# Altium footprint library USB4215-03-A.PcbLib: 1 footprints
Each footprint in its own frame and in the unit in brackets; x right, y up, seen from the top. Pads: shape width x height; smd on the part's side, far side on the other; paste and mask are expansions set on the pad; w line width, h text height; cw(c..) or ccw(c..) is an arc to the next point about the centre after c.
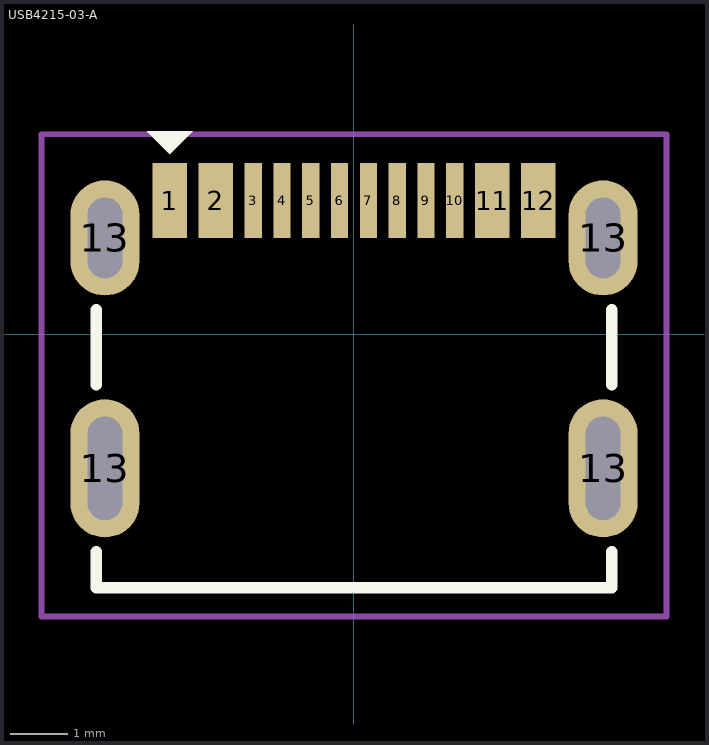
[diagram p0: the footprint, top view; thin cyan lines are the x and y axes]

## USB4215-03-A [mm]
pads (16):
  rect 0.6x1.3 smd: 1(-3.2,2.325) 2(-2.4,2.325) 11(2.4,2.325) 12(3.2,2.325)
  rect 0.3x1.3 smd: 3(-1.75,2.325) 4(-1.25,2.325) 5(-0.75,2.325) 6(-0.25,2.325) 7(0.25,2.325) 8(0.75,2.325) 9(1.25,2.325) 10(1.75,2.325)
  oval 1.2x2 hole 0.6 slot 1.4 at 90 deg: 13(-4.325,1.675) 13(4.325,1.675)
  oval 1.2x2.4 hole 0.6 slot 1.8 at 90 deg: 13(-4.325,-2.325) 13(4.325,-2.325)
Top Overlay:
  region: -3.6,3.525 -2.8,3.525 -3.2,3.125
  lines w0.2: -4.475,-3.775 -4.475,-4.4 4.475,-4.4 4.475,-3.775 ; -4.475,-0.875 -4.475,0.425 ; 4.475,-0.875 4.475,0.425
Top Courtyard:
  lines w0.1: -5.425,-4.9 5.425,-4.9 5.425,3.475 -5.425,3.475 -5.425,-4.9
3D body "USB4215-03-A.stp": height 3.28, standoff -0.78, extent -4.47,-4.399 4.47,2.35